# Altium schematic symbol library Common Devices.SchLib: 22 symbols
Pins are listed as number, name and electrical type; pins without a type are passive.

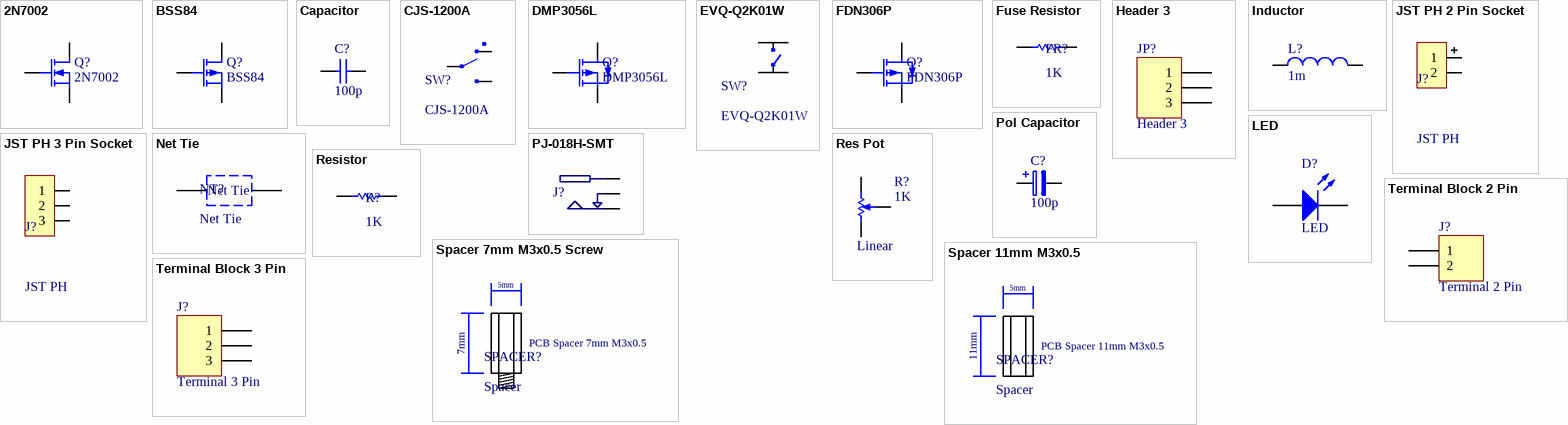
[diagram p0: symbols 2N7002 to Terminal Block 3 Pin]

## 2N7002
designator Q?
Transistor, MOSFET, N-Channel, 60V, 300mA; Supplier 1: Digi-Key; Supplier Part Number 1: 568-5818-1-ND
simulation model NMOS (MOSFET-N)
footprint SSOT-3 (SOT23, 3-Leads, Body 2,92x2,50mm, Pitch 0,95mm, IPC Medium Density)
pins: 1 G, 2 S, 3 D

## BSS84
designator Q?
Transistor, MOSFET, P-Channel, 60V, 300mA; Supplier 1: Digi-Key; Supplier Part Number 1: BSS84CT-ND
simulation model PMOS (MOSFET-P)
footprint SSOT-3 (SOT23, 3-Leads, Body 2,92x2,50mm, Pitch 0,95mm, IPC Medium Density)
pins: 1 G, 2 S, 3 D

## Capacitor
designator C?, comment 100p
Capacitor; Value: 100p; Rated Voltage: *
simulation model CAP (Capacitor)
signal-integrity model Cap
footprint C0805 (Chip Capacitor, 2-Leads, Body 2,00x1,25mm, IPC Medium Density)
footprint C1206 (Chip Capacitor, 2-Leads, Body 3,20x1,60mm, IPC Medium Density)
footprint C0603 (Chip Capacitor, 2-Leads, Body 1,55x0,85mm, IPC Medium Density)
pins: 1, 2

## CJS-1200A
designator SW?
Switch - SPDT; Supplier 1: Digi-Key; Supplier Part Number 1: 563-1021-1-ND
footprint CJS-1200A (Switch - SPDT)
pins: 1, 2 COM, 3

## DMP3056L
designator Q?
Transistor, MOSFET, P-Channel, 30V, 4.3A; RDSon @ VGS =-4.5V: 50 m; Supplier 1: Digi-Key; Supplier Part Number 1: DMP3056L-7DICT-ND
simulation model PMOS (MOSFET-P)
footprint SSOT-3 (SOT23, 3-Leads, Body 2,92x2,50mm, Pitch 0,95mm, IPC Medium Density)
pins: 1 G, 2 S, 3 D

## EVQ-Q2K01W
designator SW?
Switch - SPST Off-Mom; Supplier 1: Digi-Key; Supplier Part Number 1: P12941SCT-ND
footprint EVQ-Q2K01W (Switch - SPST Off-Mom)
pins: 1 A1, 2 A2, 3 B2, 4 B1

## FDN306P
designator Q?
Transistor, MOSFET, P-Channel, 12V, 2.5A; RDSon @ VGS =-4.5V: 50 m; Supplier 1: Digi-Key; Supplier Part Number 1: FDN306PCT-ND
simulation model PMOS (MOSFET-P)
footprint SSOT-3 (SOT23, 3-Leads, Body 2,92x2,50mm, Pitch 0,95mm, IPC Medium Density)
pins: 1 G, 2 S, 3 D

## Fuse Resistor
designator FR?, comment 1K
Resistor, Fuse; Value: 1K; Power: *
simulation model RESISTOR (Resistor)
signal-integrity model Res
footprint RAXIAL-10mm-0.8mm (Axial 3W resistor)
pins: 1, 2

## Header 3
designator JP?
Header, 3-Pin
footprint HDR1X3 (Connector; Header; 3 Position)
signal-integrity model Connector
pins: 1, 2, 3

## Inductor
designator L?, comment 1m
Inductor; Saturation current: 500mA; Value: 1m
simulation model INDUCTOR (Inductor)
signal-integrity model Inductor
footprint INDUCTOR-5MM
pins: 1, 2

## JST PH 2 Pin Socket
designator J?, comment JST PH
JST PH 2 Pin Socket; Supplier 1: Digi-Key; Supplier Part Number 1: 455-1719-ND
footprint JST PH 2 Socket (JST PH 2 Pin Socket)
pins: 1, 2

## JST PH 3 Pin Socket
designator J?, comment JST PH
JST PH 3 Pin Socket; Supplier 1: Digi-Key; Supplier Part Number 1: 455-1720-ND
footprint JST PH 3 Socket (JST PH 3 Pin Socket)
pins: 1, 2, 3

## LED
designator D?
LED - 3015 metric (aprox. 1206); Supplier 1: Farnell; Supplier 2: Farnell; Supplier 3: Farnell; Supplier 4: Farnell; Supplier Part Number 1: 2426228; Supplier Part Number 2: 2426227; Supplier Part Number 3: 2426230; Supplier Part Number 4: 2426229
footprint LED3015M (Chip Diode, 2-Leads, Body 3,00x1,50mm, IPC Medium Density)
pins: 1 A, 2 K

## Net Tie
designator NT?  (net tie, no BOM)
Net Tie (AGND-DGND)
footprint Net Tie (AGND-DGND) (Net Tie)
pins: 1, 2

## PJ-018H-SMT
designator J?, comment DC Plug  (value not drawn)
DC Power Plug - 4.0 mmOD / 1.7 mmID; Inner Diameter: 1.7 mm; Outer Diameter: 4.0 mm; DC Conn Standard: EIAJ-02; Supplier 1: Digi-Key; Supplier Part Number 1: CP-018HPJCT-ND
footprint PJ-018H-SMT (DC Power Plug - 4.0 mmOD / 1.7 mmID)
pins: 1, 2, 3

## Pol Capacitor
designator C?, comment 100p
Polarized Capacitor; Value: 100p; Rated Voltage: *
simulation model CAP (Capacitor)
signal-integrity model Cap
footprint C0805 (Chip Capacitor, 2-Leads, Body 2,00x1,25mm, IPC Medium Density)
footprint C1206 (Chip Capacitor, 2-Leads, Body 3,20x1,60mm, IPC Medium Density)
footprint CRADIAL-2.5mm
footprint CRADIAL-2mm
footprint CAPAE5543X54N (Aluminum Electrolytic Capacitor, Body 3,95x4,30x5,40mm, IPC Medium Density)
footprint CRADIAL-5mm-20mm
footprint CRADIAL-5mm-16mm
pins: 1, 2

## Res Pot
designator R?, comment 1K  Type: Linear
Square Trimming Potentiometer; Value: 1K
footprint Res Pot Square Trimm
pins: 1, 2, 3
1 alternate drawing of the same symbol

## Resistor
designator R?, comment 1K
Resistor; Value: 1K; Power: *
simulation model RESISTOR (Resistor)
signal-integrity model Res
footprint R0805 (Chip Resistor, 2-Leads, Body 2,00x1,25mm, IPC Medium Density)
footprint R1206 (Chip Resistor, 2-Leads, Body 3,20x1,60mm, IPC Medium Density)
footprint RAXIAL-20mm-1mm (Axial 3W resistor)
footprint R2512 (Chip Resistor, 2-Leads, Body 6,40x3,20mm, IPC Medium Density)
footprint R0603 (Chip Resistor, 2-Leads, Body 1,55x0,85mm, IPC Medium Density)
pins: 1, 2

## Spacer 7mm M3x0.5 Screw
designator SPACER?, comment Spacer
PCB Spacer 7mm M3x0.5 Screw; Supplier 1: Digi-Key; Supplier Part Number 1: 952-1498-ND
footprint Spacer 7mm M3x0.5 Screw (PCB Spacer mm M3x0.5 Screw)
text: 5mm; 7mm; PCB Spacer 7mm M3x0.5

## Spacer 11mm M3x0.5
designator SPACER?, comment Spacer
PCB Spacer 11mm M3x0.5; Supplier 1: Digi-Key; Supplier Part Number 1: 952-2312-ND
footprint Spacer 11mm M3x0.5 (PCB Spacer 11mm M3x0.5)
text: 5mm; 11mm

## Terminal Block 2 Pin
designator J?, comment Terminal 2 Pin
Terminal Block, 2 Pin
signal-integrity model Connector
footprint 2 Pin 5mm Terminal Block
pins: 1, 2

## Terminal Block 3 Pin
designator J?, comment Terminal 3 Pin
Terminal Block, 3 Pin
signal-integrity model Connector
footprint 3 Pin 5mm Terminal Block
pins: 1, 2, 3